# Altium footprint library NX1001-05SMR.PcbLib: 1 footprints
Each footprint in its own frame and in the unit in brackets; x right, y up, seen from the top. Pads: shape width x height; smd on the part's side, far side on the other; paste and mask are expansions set on the pad; w line width, h text height; cw(c..) or ccw(c..) is an arc to the next point about the centre after c.
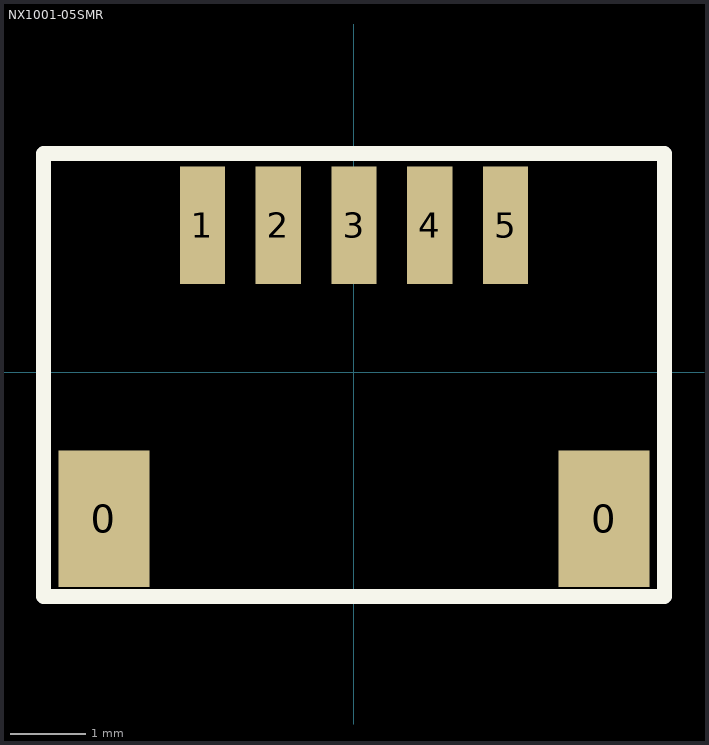
[diagram p0: the footprint, top view; thin cyan lines are the x and y axes]

## NX1001-05SMR [mm] "NX1001-05SMR"
pads (7):
  rect 1.2x1.8 smd mask+0.015: 0(-3.3,-1.937) 0(3.3,-1.937)
  rect 0.6x1.55 smd mask+0.015: 1(-2,1.938) 2(-1,1.938) 3(0,1.938) 4(1,1.938) 5(2,1.938)
Top Overlay:
  lines w0.2: -4.1,-2.962 4.1,-2.962 4.1,2.888 -4.1,2.888 -4.1,-2.962
Top Assembly:
  lines w0.1: -4.1,-2.962 4.1,-2.962 4.1,2.913 -4.1,2.913 -4.1,-2.962
  text "'.Designator'" at 0,0 h0.7